# Altium schematic symbol library SST25Vxxx.SchLib: 1 symbol
Pins are listed as number, name and electrical type; pins without a type are passive.

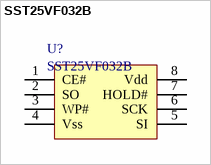
[diagram p0: symbol SST25VF032B]

## SST25VF032B
designator U?
32 Mbit SPI Serial Flash; datasheet: http://www.sst.com/dotAsset/40373.pdf
pins: 1 CE#, 2 SO, 3 WP#, 4 Vss, 5 SI, 6 SCK, 7 HOLD#, 8 Vdd